# Altium schematic symbol library CL10B104KA8NNNC.SchLib: 1 symbol
Pins are listed as number, name and electrical type; pins without a type are passive.

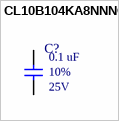
[diagram p0: symbol CL10B104KA8NNNC]

## CL10B104KA8NNNC
designator C?  Rated Voltage: 25V  Tolerance: 10%  Capacitence: 0.1 uF  (hidden comment: CL10B104KA8NNNC)
CAP CER 0.1UF 25V X7R 0603; MFR: Samsung Electro-Mechanics; PN: CL10B104KA8NNNC; ComponentLink1Description: Datasheet; ComponentLink1URL: http://www.samsungsem.com/kr/support/product-search/mlcc/CL10B104KA8NNNC.jsp; Temperature Coefficient: X7R; Package: 0603; Footprint: C0603; Supplier 1: Digi-Key; Supplier Part Number 1: 1276-1006-1-ND
footprint C0603 (Generic C0603 Footprint)
pins: 1, 2